# Altium footprint library My_lib.Pcblib: 6 footprints
Each footprint in its own frame and in the unit in brackets; x right, y up, seen from the top. Pads: shape width x height; smd on the part's side, far side on the other; paste and mask are expansions set on the pad; w line width, h text height; cw(c..) or ccw(c..) is an arc to the next point about the centre after c.
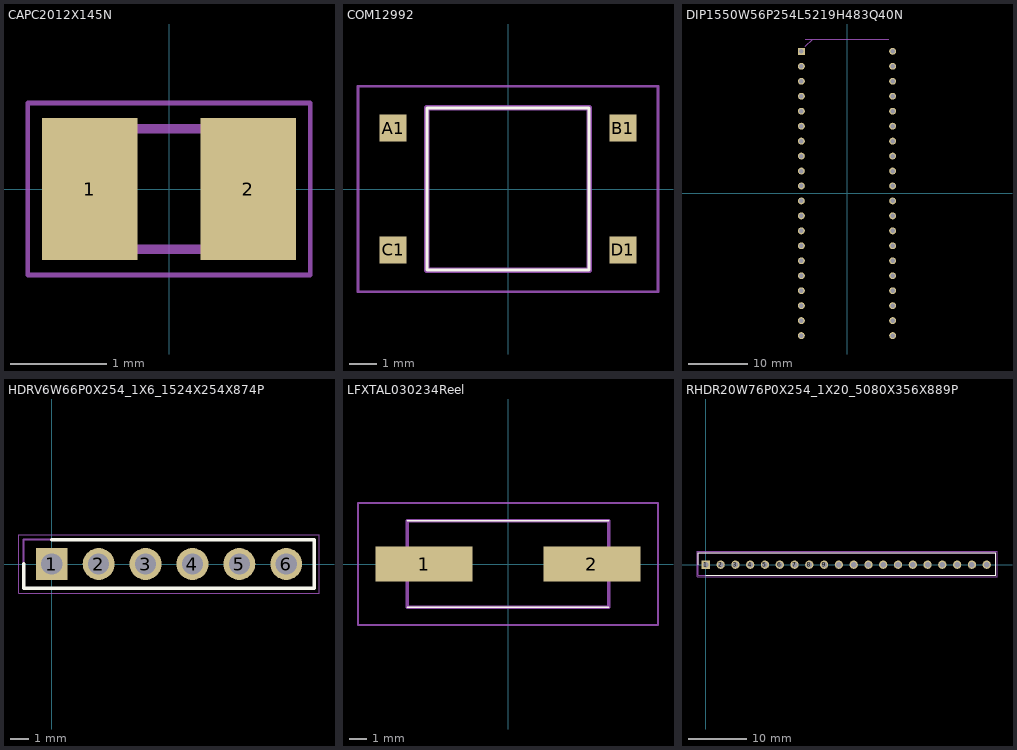
[diagram p0: the footprints below, top view; thin cyan lines are the x and y axes]

## CAPC2012X145N [mm]
pads (2):
  rect 0.99x1.47 smd: 1(-0.82,0) 2(0.82,0)
Mechanical 13:
  lines w0.1: -1,-0.625 -1,0.625 1,0.625 1,-0.625 -1,-0.625
Mechanical 15:
  lines w0.05: -1.465,-0.89 -1.465,0.89 1.465,0.89 1.465,-0.89 -1.465,-0.89
3D body "VJ0805Y104KBABE31.stp": height 1.45, standoff 0, extent -1,-0.625 1,0.625

## COM12992 [mm]
pads (4):
  rect 1x1 smd: A1(-4.25,2.25) B1(4.25,2.25) C1(-4.25,-2.25) D1(4.25,-2.25)
Top Overlay:
  lines w0.1: -3,-3 3,-3 3,3 -3,3 -3,-3
Mechanical 13:
  lines w0.2: -3,-3 3,-3 3,3 -3,3 -3,-3
Mechanical 15:
  lines w0.1: -5.55,-3.8 5.55,-3.8 5.55,3.8 -5.55,3.8 -5.55,-3.8
3D body "COM-12992.stp": height 7, standoff 0, extent -4.5,-3 4.5,3

## DIP1550W56P254L5219H483Q40N [mm]
pads (40):
  rect 1.16x1.16 hole 0.76: 1(-7.748,24.13)
  round 1.16 hole 0.76: 2(-7.748,21.59) 3(-7.748,19.05) 4(-7.748,16.51) 5(-7.748,13.97) 6(-7.748,11.43) 7(-7.748,8.89) 8(-7.748,6.35) 9(-7.748,3.81) 10(-7.748,1.27) 11(-7.748,-1.27) 12(-7.748,-3.81) 13(-7.748,-6.35) 14(-7.748,-8.89) 15(-7.748,-11.43) 16(-7.748,-13.97) 17(-7.748,-16.51) 18(-7.748,-19.05) 19(-7.748,-21.59) 20(-7.748,-24.13) 21(7.748,-24.13) 22(7.748,-21.59) 23(7.748,-19.05) 24(7.748,-16.51) 25(7.748,-13.97) 26(7.748,-11.43) 27(7.748,-8.89) 28(7.748,-6.35) 29(7.748,-3.81) 30(7.748,-1.27) 31(7.748,1.27) 32(7.748,3.81) 33(7.748,6.35) 34(7.748,8.89) 35(7.748,11.43) 36(7.748,13.97) 37(7.748,16.51) 38(7.748,19.05) 39(7.748,21.59) 40(7.748,24.13)
Mechanical 13:
  lines w0.1: -7.11,24.955 -5.84,26.225 ; -7.11,26.225 7.11,26.225
3D body "6-534237-8.stp": height 8.64, standoff -2.92, extent 5.97,-25.4 9.526,25.4
3D body "6-534237-8.stp": height 8.64, standoff -2.92, extent -9.526,-25.4 -5.97,25.4
3D body "PIC16F877A-E_P.stp": height 12.33, standoff 4, extent -7.888,-26.097 7.888,26.097

## HDRV6W66P0X254_1X6_1524X254X874P [mm]
pads (6):
  rect 1.725x1.725 hole 1.15: 1(0,0)
  round 1.725 hole 1.15: 2(2.54,0) 3(5.08,0) 4(7.62,0) 5(10.16,0) 6(12.7,0)
Top Overlay:
  lines w0.2: -1.52,0 -1.52,-1.32 14.22,-1.32 14.22,1.32 0,1.32
Mechanical 13:
  lines w0.1: -1.52,-1.32 14.22,-1.32 14.22,1.32 -1.52,1.32 -1.52,-1.32
Mechanical 15:
  lines w0.05: -1.77,-1.57 14.47,-1.57 14.47,1.57 -1.77,1.57 -1.77,-1.57
3D body "M20-9990645.stp": height 8.74, standoff -3, extent -1.27,-1.27 13.97,1.27

## LFXTAL030234Reel [mm]
pads (2):
  rect 5.5x2 smd: 1(-4.75,0) 2(4.75,0)
Top Overlay:
  lines w0.1: -5.7,-2.45 5.7,-2.45 ; -5.7,2.45 5.7,2.45
Mechanical 13:
  lines w0.2: -5.7,-2.45 -5.7,2.45 5.7,2.45 5.7,-2.45 -5.7,-2.45
Mechanical 15:
  lines w0.1: -8.5,-3.45 -8.5,3.45 8.5,3.45 8.5,-3.45 -8.5,-3.45
3D body "LFXTAL030234Reel.stp": height 4.3, standoff 0, extent -6.7,-2.45 6.7,2.45

## RHDR20W76P0X254_1X20_5080X356X889P [mm]
pads (20):
  rect 1.425x1.425 hole 0.95: 1(0,0)
  round 1.425 hole 0.95: 2(2.54,0) 3(5.08,0) 4(7.62,0) 5(10.16,0) 6(12.7,0) 7(15.24,0) 8(17.78,0) 9(20.32,0) 10(22.86,0) 11(25.4,0) 12(27.94,0) 13(30.48,0) 14(33.02,0) 15(35.56,0) 16(38.1,0) 17(40.64,0) 18(43.18,0) 19(45.72,0) 20(48.26,0)
Top Overlay:
  lines w0.2: -1.27,0 -1.27,2.03 49.78,2.03 49.78,-1.78 0,-1.78
Mechanical 13:
  lines w0.1: -1.27,-1.78 49.78,-1.78 49.78,2.03 -1.27,2.03 -1.27,-1.78
Mechanical 15:
  lines w0.05: -1.52,-2.03 50.03,-2.03 50.03,2.28 -1.52,2.28 -1.52,-2.03
3D body "6-534237-8.stp": height 8.64, standoff -2.92, extent -1.14,-1.848 49.66,1.708